# EAGLE library part FT121Q (library SensorCape)
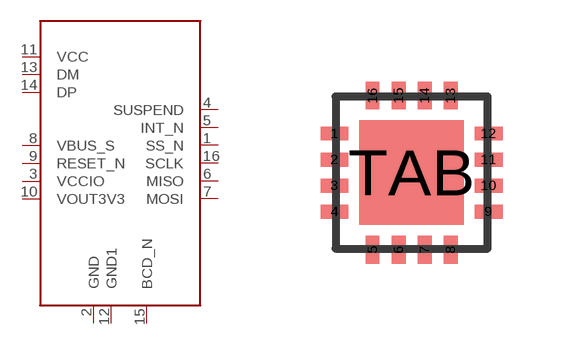
[diagram p21: symbol with the pads of QFN16; footprint QFN16]

Designator prefix -

## FT121Q  [QFN16]
1  SS_N
2  GND
3  VCCIO
4  SUSPEND
5  INT_N
6  MISO
7  MOSI
8  VBUS_S
9  RESET_N
10  VOUT3V3
11  VCC
12  GND1
13  DM
14  DP
15  BCD_N
16  SCLK

## Footprint QFN16 (pad centres in mm)
QFN-16 4 x 4 mm Source: Data sheet <http://www.ftdichip.com/Support/Documents/DataSheets/ICs/DS_FT230X.pdf>
smd 0.7 x 0.35: 1 -1.925,0.975; 2 -1.925,0.325; 3 -1.925,-0.325; 4 -1.925,-0.975; 9 1.925,-0.975; 10 1.925,-0.325; 11 1.925,0.325; 12 1.925,0.975
smd 0.35 x 0.7: 5 -0.975,-1.925; 6 -0.325,-1.925; 7 0.325,-1.925; 8 0.975,-1.925; 13 0.975,1.925; 14 0.325,1.925; 15 -0.325,1.925; 16 -0.975,1.925
smd 2.6 x 2.6: TAB 0,0